# Altium footprint library CORE.PcbLib: 32 footprints (part 2 of 2)
Each footprint in its own frame and in the unit in brackets; x right, y up, seen from the top. Pads: shape width x height; smd on the part's side, far side on the other; paste and mask are expansions set on the pad; w line width, h text height; cw(c..) or ccw(c..) is an arc to the next point about the centre after c.
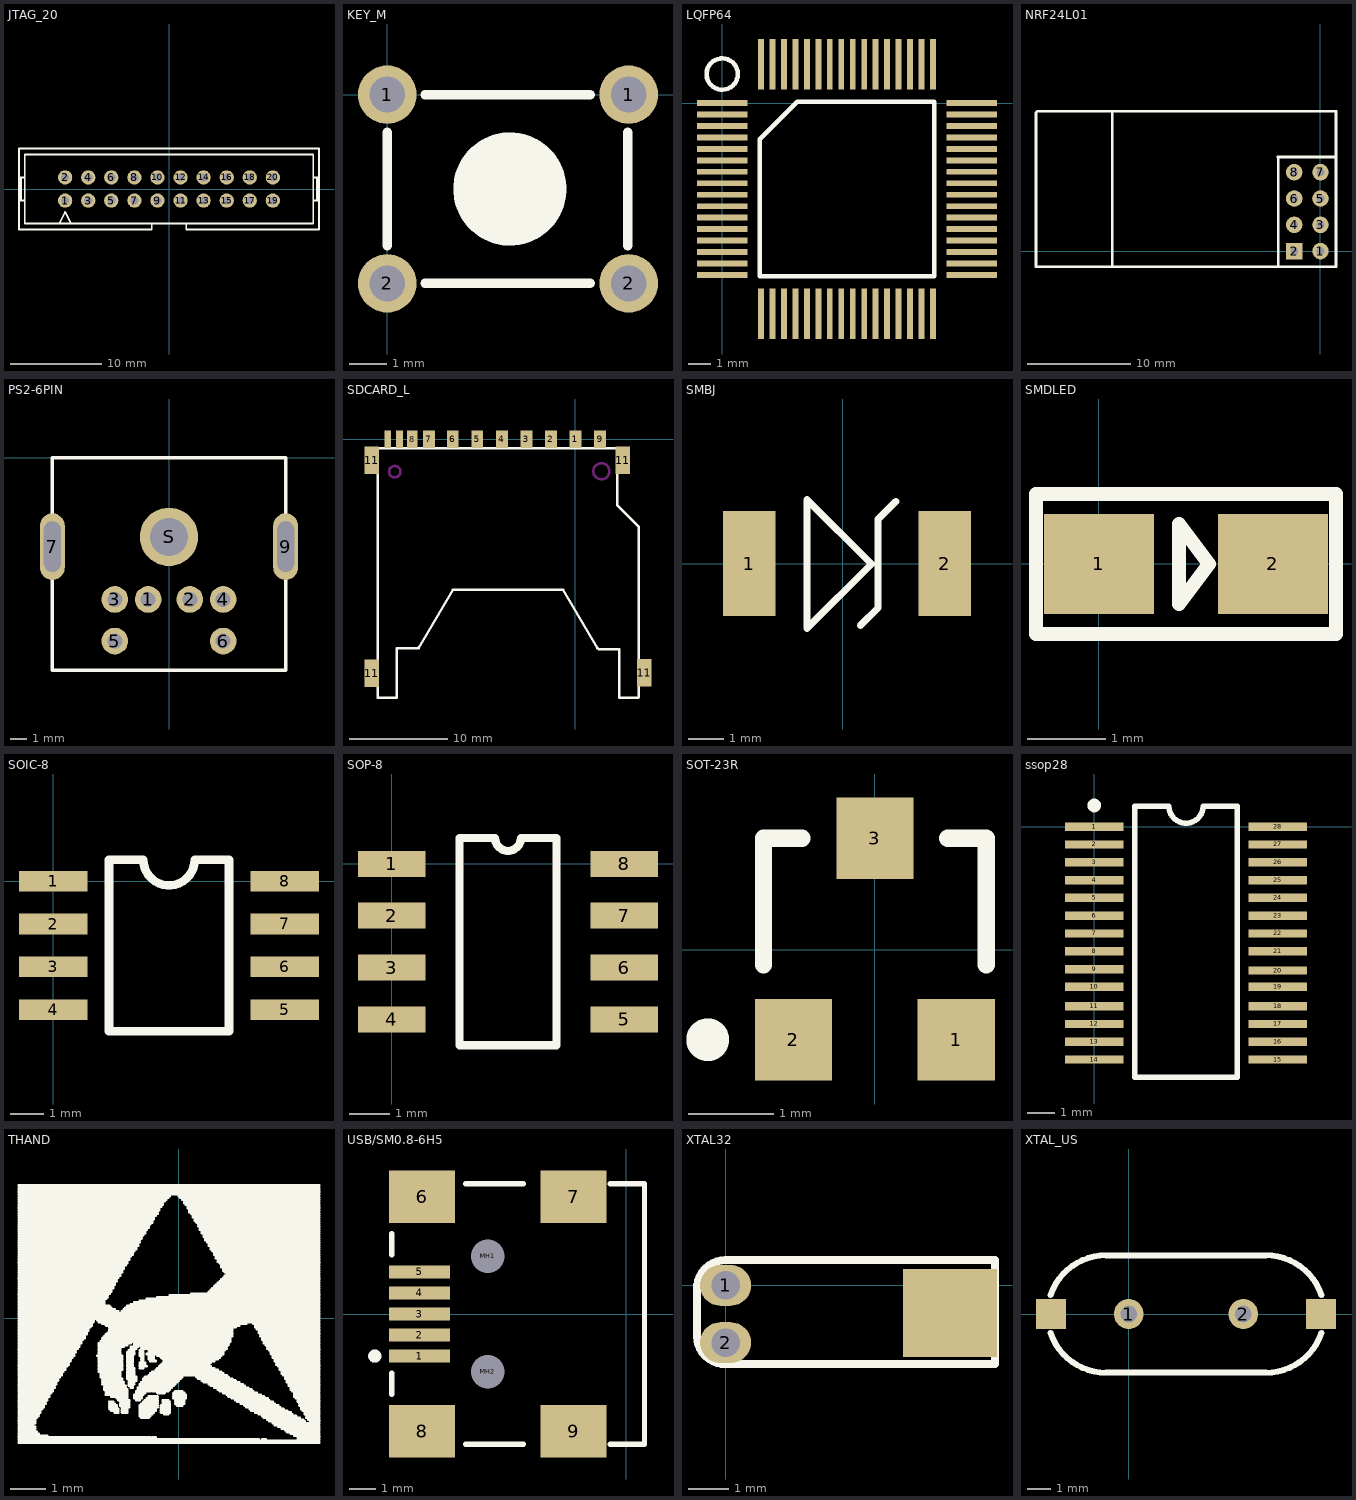
[diagram p1: the footprints below, top view; thin cyan lines are the x and y axes]

## JTAG_20 [mil]
pads (20):
  round 62 hole 35: 1(-450,-50) 2(-450,50) 3(-350,-50) 4(-350,50) 5(-250,-50) 6(-250,50) 7(-150,-50) 8(-150,50) 9(-50,-50) 10(-50,50) 11(50,-50) 12(50,50) 13(150,-50) 14(150,50) 15(250,-50) 16(250,50) 17(350,-50) 18(350,50) 19(450,-50) 20(450,50)
Top Overlay:
  lines w8: -650,-50 -625,-50 ; -650,50 -625,50 ; -641.67,-50 -641.67,50 ; -475,-150 -450,-100 -425,-150 ; -339.57,-175 -75,-175 -75,-150 ; -325,-175 -650,-175 -650,175 650,175 650,-175 325,-175 75,-175 75,-150 ; 625,-50 650,-50 ; 625,50 650,50 ; 641.67,-50 641.67,50 ; -75,-150 75,-150 ; -75,-150 -625,-150 -625,150 625,150 625,-150 75,-150

## KEY_M [mil]
pads (4):
  round 62 hole 38: 1(0,0) 1(255.91,0) 2(0,-200) 2(255.91,-200)
Top Overlay:
  circle w60: c130,-100 r30
  lines w10: -0.03,-160 -0.03,-40 ; 39.97,-200 215,-200 ; 39.97,0 215,0 ; 255,-160 255,-40

## LQFP64 [mm]
pads (64):
  rect 2.2x0.254 smd: 1(0,0) 2(0,-0.5) 3(0,-1) 4(0,-1.5) 5(0,-2) 6(0,-2.5) 7(0,-3) 8(0,-3.5) 9(0,-4) 10(0,-4.5) 11(0,-5) 12(0,-5.5) 13(0,-6) 14(0,-6.5) 15(0,-7) 16(0,-7.5) 33(10.9,-7.5) 34(10.9,-7) 35(10.9,-6.5) 36(10.9,-6) 37(10.9,-5.5) 38(10.9,-5) 39(10.9,-4.5) 40(10.9,-4) 41(10.9,-3.5) 42(10.9,-3) 43(10.9,-2.5) 44(10.9,-2) 45(10.9,-1.5) 46(10.9,-1) 47(10.9,-0.5) 48(10.9,0)
  rect 0.254x2.2 smd: 17(1.7,-9.2) 18(2.2,-9.2) 19(2.7,-9.2) 20(3.2,-9.2) 21(3.7,-9.2) 22(4.2,-9.2) 23(4.7,-9.2) 24(5.2,-9.2) 25(5.7,-9.2) 26(6.2,-9.2) 27(6.7,-9.2) 28(7.2,-9.2) 29(7.7,-9.2) 30(8.2,-9.2) 31(8.7,-9.2) 32(9.2,-9.2) 49(9.2,1.7) 50(8.7,1.7) 51(8.2,1.7) 52(7.7,1.7) 53(7.2,1.7) 54(6.7,1.7) 55(6.2,1.7) 56(5.7,1.7) 57(5.2,1.7) 58(4.7,1.7) 59(4.2,1.7) 60(3.7,1.7) 61(3.2,1.7) 62(2.7,1.7) 63(2.2,1.7) 64(1.7,1.7)
Top Overlay:
  circle w0.2: c0,1.27 r0.684
  lines w0.2: 1.635,-7.565 9.265,-7.565 9.265,0.065 3.27,0.065 1.635,-1.57 1.635,-7.565

## NRF24L01 [mm]
pads (8):
  round 1.6 hole 0.762: 1(0,0) 3(0,2.54) 4(-2.54,2.54) 5(0,5.08) 6(-2.54,5.08) 7(0,7.62) 8(-2.54,7.62)
  rect 1.6x1.6 hole 0.762: 2(-2.54,0)
Top Overlay:
  lines w0.254: -20.142,-1.5 -20.142,13.5 ; -4.089,-1.5 -4.089,9.068 -4.115,9.093 1.5,9.093 ; -27.5,-1.5 -27.5,13.394 -27.394,13.5 1.5,13.5 1.5,-1.5 -27.5,-1.5

## PS2-6PIN [mm]
pads (9):
  round 1.6 hole 0.9: 1(-1.25,-8.5) 2(1.25,-8.5) 3(-3.25,-8.5) 4(3.25,-8.5) 5(-3.25,-11) 6(3.25,-11)
  oval 1.5x4 hole 1 slot 3.048 at 90 deg: 7(-7,-5.334) 9(7,-5.334)
  round 3.5 hole 2.3: S(0,-4.75)
Top Overlay:
  lines w0.2: -7,-12.75 7,-12.75 7,0 -7,0 -7,-12.75

## SDCARD_L [mm]
pads (15):
  rect 1.2x1.8 smd: 1(0,0) 2(-2.489,0) 3(-4.983,-0.009) 4(-7.483,-0.009) 5(-9.983,-0.009) 6(-12.483,-0.009) 7(-14.908,-0.009) 9(2.517,-0.009)
  rect 1.1x1.8 smd: 8(-16.612,0)
  rect 0.7x1.8 smd: 10(-17.908,-0.009) 12(-19.101,0)
  rect 1.5x2.8 smd: 11(-20.726,-23.834) 11(-20.726,-2.143) 11(4.826,-2.143) 11(7.01,-23.784)
Top Overlay:
  lines w0.254: -18.158,-21.3 -18.158,-26.3 -20.131,-26.3 -20.131,-0.914 -20.117,-0.9 4.242,-0.9 4.242,-6.71 6.431,-8.899 6.442,-8.899 6.442,-26.273 6.415,-26.3 4.442,-26.3 4.442,-21.402 2.4,-21.402 2.242,-21.244 ; -18.107,-21.294 -16.065,-21.294 -15.907,-21.136 ; -15.958,-21.294 -12.446,-15.3 ; -12.458,-15.3 -1.258,-15.3 2.242,-21.294
Keep-Out Layer:
  circle w0.254: c2.642,-3.26 r0.82
  circle w0.254: c-18.39,-3.3 r0.58

## SMBJ [mm]
pads (2):
  rect 1.5x3 smd: 1(-2.667,0) 2(2.921,0)
Top Overlay:
  lines w0.203: 0.508,-1.778 1.016,-1.27 1.016,1.27 1.524,1.778 ; -1.016,-1.854 -1.016,1.829 0.826,-0.013 -1.016,-1.854

## SMDLED [mm]
pads (2):
  rect 1.4x1.27 smd: 1(0.001,-0.002) 2(2.211,-0.002)
Top Overlay:
  lines w0.178: 3.012,0.887 3.011,0.887 ; 3.011,0.887 3.011,-0.891 -0.799,-0.891 -0.799,-0.002 -0.799,0.887 3.011,0.887 ; 1.017,-0.51 1.017,0.506 1.398,-0.002 1.017,-0.51

## SOIC-8 [mil]
pads (8):
  rect 80x24 smd: 1(0,0) 2(0,-50.06) 3(0,-100.06) 4(0,-150.06) 5(270,-150) 6(270,-100) 7(270,-50) 8(270,0)
Top Overlay:
  lines w10: 75,24.94 75.06,25 105,25 ccw(c135,25) 165,25 204.94,25 205,24.94 205,-175.06 65,-175.06 65,24.94 95,24.94

## SOP-8 [mil]
pads (8):
  rect 65x25 smd: 1(0,0) 2(0,-50) 3(0,-100) 4(0,-150) 5(224.41,-150) 6(224.41,-100) 7(224.41,-50) 8(224.41,0)
Top Overlay:
  lines w7.87: 65.37,-175 65.37,25 99.7,25 ccw(c112.2,25) 124.7,25 159.03,25 159.03,-175 65.37,-175

## SOT-23R [mm]
pads (3):
  rect 0.9x0.95 smd: 1(0.95,-1.048) 2(-0.95,-1.048) 3(0,1.302)
Top Overlay:
  circle w0.25: c-1.95,-1.048 r0.125
  lines w0.2: -1.3,-0.173 -1.3,1.302 -0.85,1.302 ; 0.85,1.302 1.3,1.302 1.3,-0.173

## ssop28 [mm]
pads (28):
  rect 2.15x0.305 smd: 1(0,0) 2(0,-0.65) 3(0,-1.3) 4(0,-1.95) 5(0,-2.6) 6(0,-3.25) 7(0,-3.9) 8(0,-4.55) 9(0,-5.2) 10(0,-5.85) 11(0,-6.552) 12(0,-7.202) 13(0,-7.852) 14(0,-8.502) 15(6.7,-8.502) 16(6.7,-7.852) 17(6.7,-7.202) 18(6.7,-6.552) 19(6.7,-5.85) 20(6.7,-5.252) 21(6.7,-4.55) 22(6.7,-3.9) 23(6.7,-3.25) 24(6.7,-2.6) 25(6.7,-1.95) 26(6.7,-1.3) 27(6.7,-0.65) 28(6.7,0)
Top Overlay:
  circle w0.25: c0,0.775 r0.125
  lines w0.2: 1.475,-9.144 1.475,0.75 2.725,0.75 ccw(c3.35,0.75) 3.975,0.75 5.225,0.75 5.225,-9.144 1.475,-9.144

## THAND [mm]
Top Overlay:
  drawing of 472 lines, arcs and shapes, not listed

## USB/SM0.8-6H5 [mm]
pads (11):
  rect 2.3x0.5 smd: 1(-7.85,-1.6) 2(-7.85,-0.8) 3(-7.85,0) 4(-7.85,0.8) 5(-7.85,1.6)
  rect 2.5x2 smd: 6(-7.75,4.45) 7(-1.996,4.45) 8(-7.75,-4.45) 9(-1.996,-4.45)
  round 0.6 hole 1.27 unplated: MH1(-5.25,2.2) MH2(-5.25,-2.2)
Top Overlay:
  circle w0.25: c-9.55,-1.6 r0.125
  lines w0.2: -8.9,-3.05 -8.9,-2.25 ; -8.9,2.25 -8.9,3.05 ; -6.1,-4.95 -3.9,-4.95 ; -6.1,4.95 -3.9,4.95 ; -0.6,-4.95 0.7,-4.95 0.7,4.95 -0.6,4.95

## XTAL32 [mil]
pads (3):
  oval 50x40 hole 28: 1(0,0) 2(0,-56)
  rect 92.13x86 smd: ""(220,-27)
Top Overlay:
  lines w8: -28,-50 ccw(c-0.5,-49.5) 0,-77 264,-77 264,25 0,25 ccw(c0.5,-3.5) -28,-4 -28,-50

## XTAL_US [mil]
pads (4):
  round 50 hole 28: 1(0,0) 2(192.13,0)
  rect 50x50 smd: ""(-130.32,0) ""(322.44,0)
Top Overlay:
  lines w10: -130.92,-31.85 ccw(c-37.79,0) -37.79,-98.42 ; -130.92,31.85 cw(c-37.79,0) -37.79,98.43 ; -38,98.42 229.92,98.43 cw(c229.92,0) 323.05,31.85 ; -37.8,-98.43 229.92,-98.42 ccw(c229.92,0) 323.05,-31.85